# Altium footprint library VSSOP-10(3.0X3.0).PcbLib: 1 footprints
Each footprint in its own frame and in the unit in brackets; x right, y up, seen from the top. Pads: shape width x height; smd on the part's side, far side on the other; paste and mask are expansions set on the pad; w line width, h text height; cw(c..) or ccw(c..) is an arc to the next point about the centre after c.
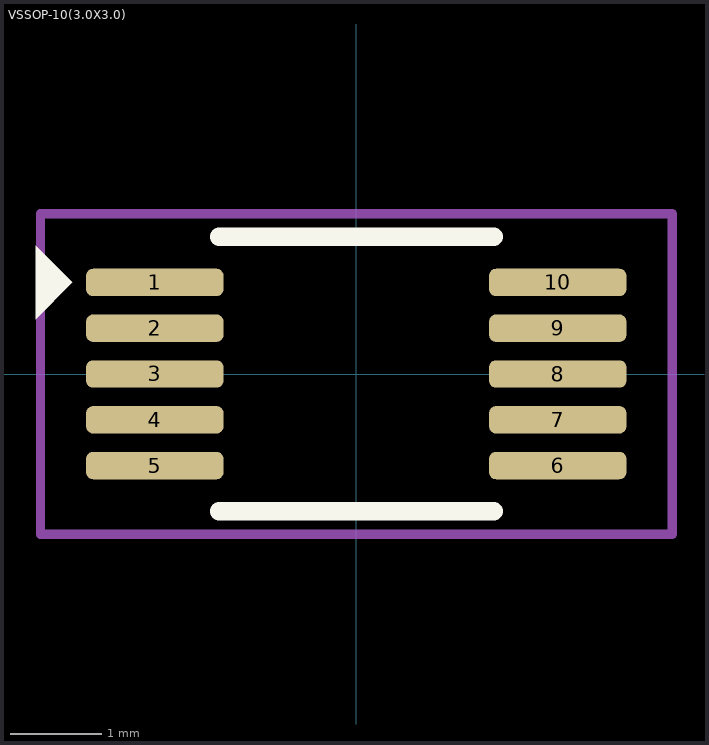
[diagram p0: the footprint, top view; thin cyan lines are the x and y axes]

## VSSOP-10(3.0X3.0) [mm]
pads (10):
  rrect50% 1.5x0.3 smd: 1(-2.2,1) 2(-2.2,0.5) 3(-2.2,0) 4(-2.2,-0.5) 5(-2.2,-1) 6(2.2,-1) 7(2.2,-0.5) 8(2.2,0) 9(2.2,0.5) 10(2.2,1)
Top Overlay:
  region: -3.5,0.6 -3.5,1.4 -3.1,1
  lines w0.2: -1.5,-1.5 1.5,-1.5 ; -1.5,1.5 1.5,1.5
Top Courtyard:
  lines w0.1: -3.45,-1.75 -3.45,1.75 3.45,1.75 3.45,-1.75 -3.45,-1.75
3D body "ADS1115IDGST.STEP": height 1.1, standoff 0, extent -2.45,-1.5 2.45,1.5